# EAGLE library part MOLEX5034801000 (library Eagle CMR)
SMD FPC Connectors 0.5MM PITCH Dual Sided Contact 10 Position Right Angle
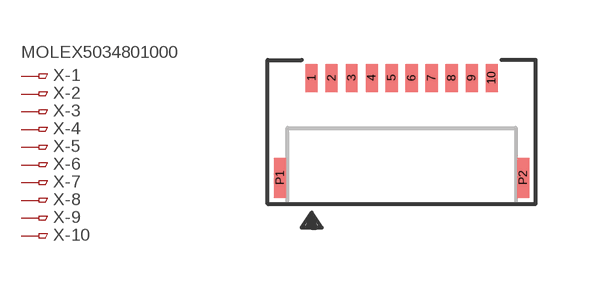
[diagram p26: symbol with the pads of MOLEX5034801000; footprint MOLEX5034801000]

Designator prefix X; gates -1=PINV -2=PIN -3=PIN -4=PIN -5=PIN -6=PIN -7=PIN -8=PIN -9=PIN -10=PIN

## MOLEX5034801000 (DIGI-KEY: WM1389CT-ND; DIGI-KEY_LINK: https://www.digikey.com/en/products/detail/molex/5034801000/2356624?s=N4IgTCBcDaIKwAYDMAWAHAgjAnIC6AvkA; LCSC#: C127355; LCSC_LINK: https://lcsc.com/product-detail/FFC-FPC-Connectors_MOLEX-5034801000_C127355.html; MANUFACTURER: MOLEX; MFR#: 5034801000)  [MOLEX5034801000]
1  -1:1  pas
2  -2:1  pas
3  -3:1  pas
4  -4:1  pas
5  -5:1  pas
6  -6:1  pas
7  -7:1  pas
8  -8:1  pas
9  -9:1  pas
10  -10:1  pas

## Footprint MOLEX5034801000 (pad centres in mm)
smd 0.3 x 0.7: 1 -2.25,2.5; 2 -1.75,2.5; 3 -1.25,2.5; 4 -0.75,2.5; 5 -0.25,2.5; 6 0.25,2.5; 7 0.75,2.5; 8 1.25,2.5; 9 1.75,2.5; 10 2.25,2.5
smd 0.3 x 1: P1 -3.04,0; P2 3.04,0